# Altium schematic symbol library SMF5.0A.SchLib: 1 symbol
Pins are listed as number, name and electrical type; pins without a type are passive.

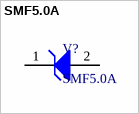
[diagram p0: symbol SMF5.0A]

## SMF5.0A
designator V?
SMF5.0A SOD-123
footprint SOD-123
pins: 1 K, 2 A